# Altium schematic symbol library reg_switching_buck.SchLib: 42 symbols
Pins are listed as number, name and electrical type; pins without a type are passive.

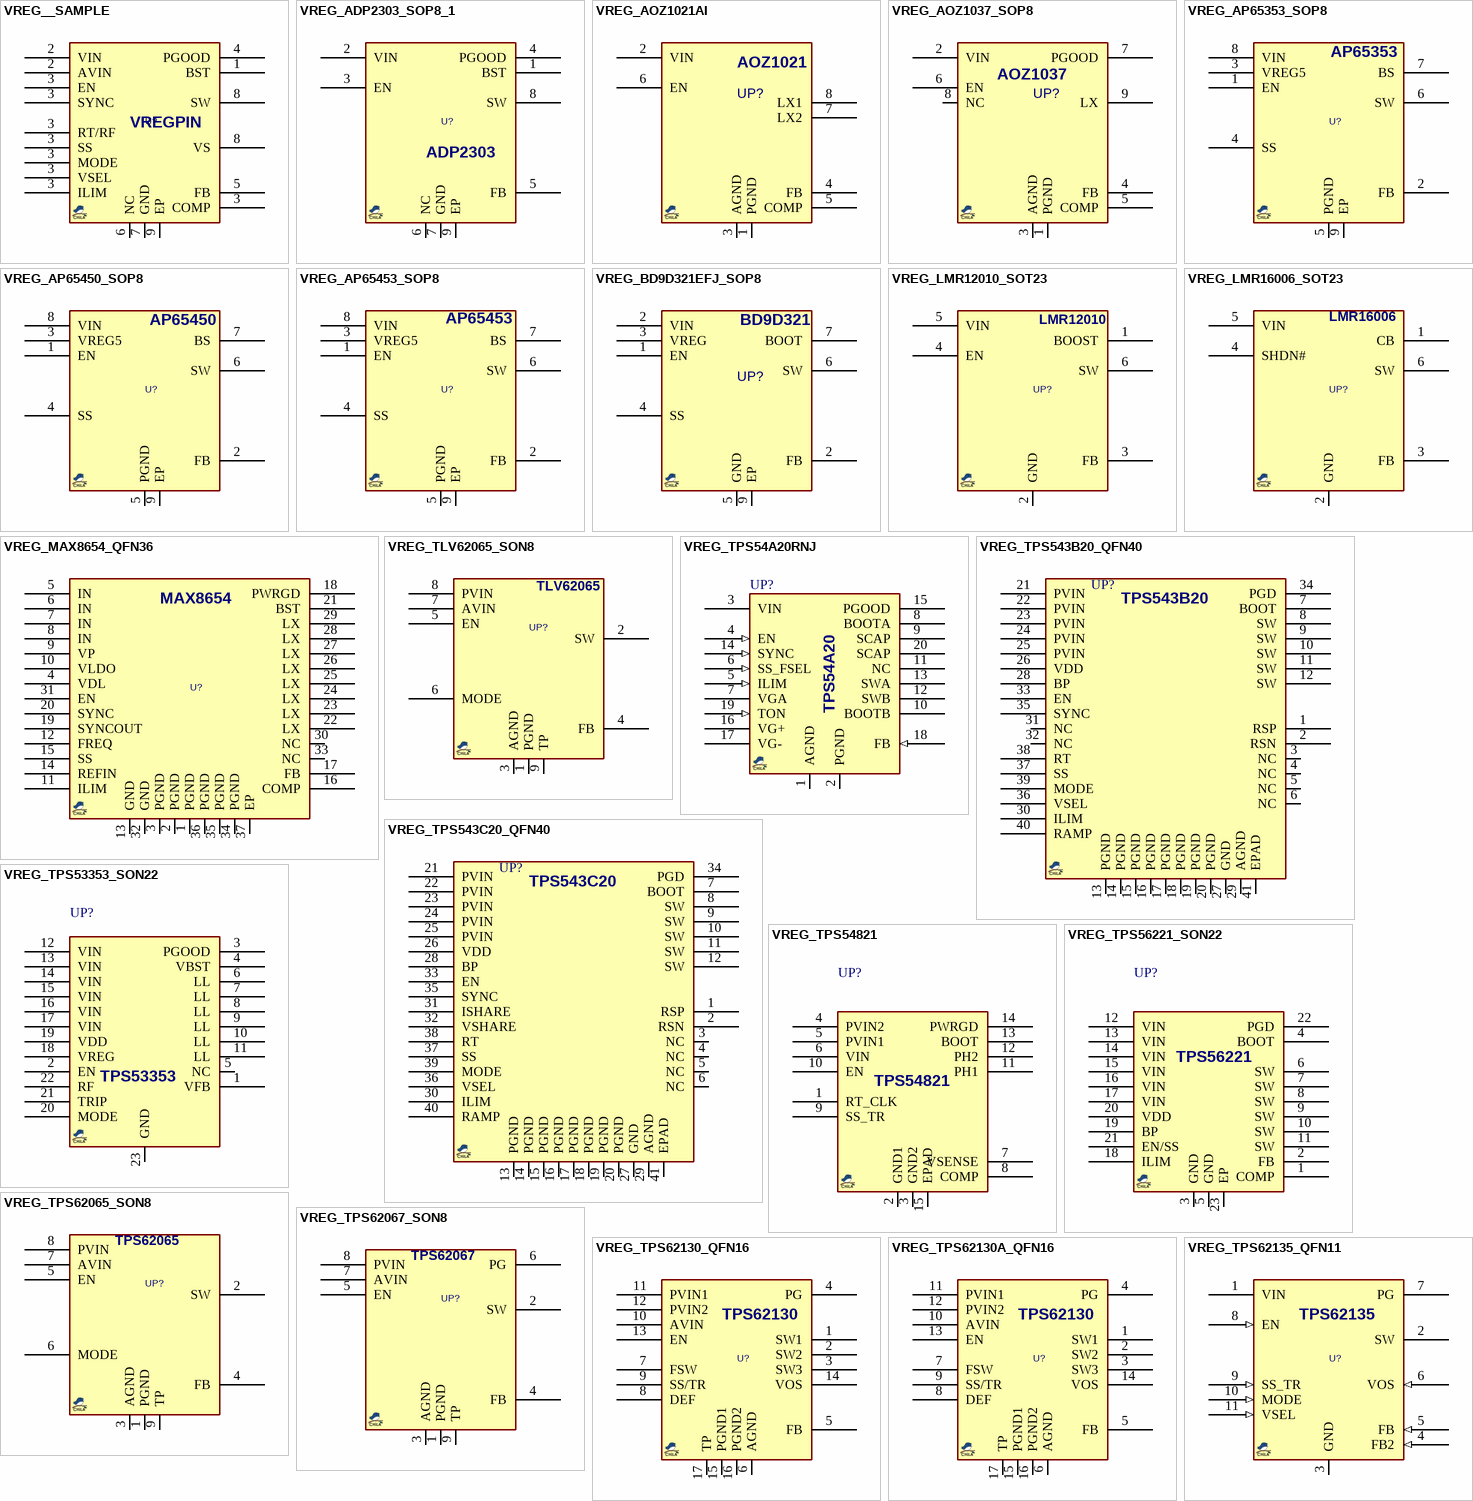
[diagram p0: symbols VREG__SAMPLE to VREG_TPS62135_QFN11]

## VREG__SAMPLE
designator U?, comment ADP2303  (value not drawn)
REG, Switching, Buck, 3A, ADJ, 0.7MHz, 3~20VIN, SOP-8; MANF: Analog Devices; MANF_P#: ADP2303ARDZ; PARAM: 3A, ADJ, -40~125oC; ASSEMBLY: ASSEMBLY; PARAM2: 0.7MHz, 3~20VIN; PRICE: 3.2$; VALUE: ADP2303
footprint SO_8T (SOP-8, 5x3.9mm body 0.5mm pitch, DDA, SO PowerPAD)
pins: 1 BST, 2 VIN, 2 AVIN, 3 EN, 3 SYNC, 3 COMP, 3 RT/RF, 3 SS, 3 MODE, 3 VSEL, 3 ILIM, 4 PGOOD, 5 FB, 6 NC, 7 GND, 8 SW, 8 VS, 9 EP
text: VREGPIN

## VREG_ADP2303_SOP8_1
designator U?, comment ADP2303  (value not drawn)
REG, Switching, Buck, 3A, ADJ, 0.7MHz, 3~20VIN, SOP-8; MANF: Analog Devices; MANF_P#: ADP2303ARDZ; PARAM: 3A, ADJ, -40~125oC; ASSEMBLY: ASSEMBLY; PARAM2: 0.7MHz, 3~20VIN; PRICE: 3.2$; VALUE: ADP2303
footprint SO_8T (SOP-8, 5x3.9mm body 0.5mm pitch, DDA, SO PowerPAD)
pins: 1 BST, 2 VIN, 3 EN, 4 PGOOD, 5 FB, 6 NC, 7 GND, 8 SW, 9 EP

## VREG_AOZ1021AI
designator UP?, comment AOZ1021AI  (value not drawn)
REG, Switching, Buck, 3A, ADJ, 500KHz, 4.5~16VIN, SO-8; MANF: AOSMD; PARAM: 3A, ADJ; ASSEMBLY: ASSEMBLY; PRICE: 1.33$, 1800t@PAYA; PARAM2: 500KHz, 4.5~16VIN; MANF_P#: AOZ1021AI; VALUE: AOZ1021AI
footprint SO_8
pins: 1 PGND (power), 2 VIN (power), 3 AGND (power), 4 FB, 5 COMP, 6 EN, 7 LX2, 8 LX1
text: AOZ1021

## VREG_AOZ1037_SOP8
designator UP?, comment AOZ1037  (value not drawn)
REG, Switching, Buck, 5A, ADJ, 0.5MHz, 4.5~18VIN, SOP8; MANF: AOSMD; PARAM: 5A, J, 0.5MHz, -40~85°C; PARAM2: 4.5~18VIN, ADJ, 55/19mΩ; MANF_P#: AOZ1037PI; ASSEMBLY: ASSEMBLY; PRICE: 1.5$; VALUE: AOZ1037
footprint SO_8T (SOP-8, 5x3.9mm body 0.5mm pitch, DDA, SO PowerPAD)
pins: 1 PGND (power), 2 VIN (power), 3 AGND (power), 4 FB (power), 5 COMP (power), 6 EN (power), 7 PGOOD (power), 8 NC (power), 9 LX (power)

## VREG_AP65353_SOP8
designator U?, comment AP65353  (value not drawn)
REG, Switching, Buck, 3A, ADJ, 0.65MHz, 4.5~18VIN, SOP-8; MANF: DIODES; MANF_P#: AP65353SP-13; PARAM: 3A, ADJ, -40~85oC; ASSEMBLY: ASSEMBLY; PARAM2: 0.65MHz, 4.5~18VIN; PRICE: 1$; VALUE: AP65353
footprint SO_8T (SOP-8, 5x3.9mm body 0.5mm pitch, DDA, SO PowerPAD)
pins: 1 EN, 2 FB, 3 VREG5, 4 SS, 5 PGND, 6 SW, 7 BS, 8 VIN, 9 EP

## VREG_AP65450_SOP8
designator U?, comment AP65450  (value not drawn)
REG, Switching, Buck, 4A, ADJ, 0.65MHz, 4.5~18VIN, SOP-8; MANF: DIODES; MANF_P#: AP65450SP-13; PARAM: 4A, ADJ, -40~85oC; ASSEMBLY: ASSEMBLY; PARAM2: 0.65MHz, 4.5~18VIN; PRICE: 0.85$; VALUE: AP65450
footprint SO_8T (SOP-8, 5x3.9mm body 0.5mm pitch, DDA, SO PowerPAD)
pins: 1 EN, 2 FB, 3 VREG5, 4 SS, 5 PGND, 6 SW, 7 BS, 8 VIN, 9 EP

## VREG_AP65453_SOP8
designator U?, comment AP65453  (value not drawn)
REG, Switching, Buck, 4A, ADJ, 0.65MHz, 4.5~18VIN, SOP-8; MANF: DIODES; MANF_P#: AP65453SP-13; PARAM: 4A, ADJ, -40~85oC; ASSEMBLY: ASSEMBLY; PARAM2: 0.65MHz, 4.5~18VIN; PRICE: 0.85$; VALUE: AP65453
footprint SO_8T (SOP-8, 5x3.9mm body 0.5mm pitch, DDA, SO PowerPAD)
pins: 1 EN, 2 FB, 3 VREG5, 4 SS, 5 PGND, 6 SW, 7 BS, 8 VIN, 9 EP

## VREG_BD9D321EFJ_SOP8
designator UP?, comment BD9D321  (value not drawn)
REG, Switching, Buck, 3A, ADJ, 700KHz, 4.5~18VIN, SO-8; MANF: ROHM; PARAM: 3A, ADJ; MANF_P#: BD9D321EFJ; ASSEMBLY: ASSEMBLY; PRICE: 0.7$; PARAM2: 700KHz, 4.5~18VIN; VALUE: BD9D321
footprint SO_8T (SOP-8, 5x3.9mm body 0.5mm pitch, DDA, SO PowerPAD)
pins: 1 EN, 2 FB, 2 VIN (power), 3 VREG, 4 SS, 5 GND (power), 6 SW, 7 BOOT, 9 EP (power)

## VREG_LMR12010_SOT23
designator UP?, comment LMR12010  (value not drawn)
REG, Switching, Buck, 1A, ADJ, 3MHz, SOT-23-6; MANF_P#: LMR12010YMK; MANF: Texas Instruments; PARAM: 1A, ADJ, 1.6/3 MHz; PARAM2: 3~20VIN; ASSEMBLY: ASSEMBLY; VALUE: LMR12010
footprint SOT23_6 (SOT-23-6, MICRO6, SOT-26, SOT457, SuperSOT6, TSOP-6, HMC313, MO-178AB, MO-193AA, TSOT)
pins: 1 BOOST, 2 GND, 3 FB, 4 EN, 5 VIN, 6 SW

## VREG_LMR16006_SOT23
designator UP?, comment LMR16006  (value not drawn)
REG, Switching, Buck, 0.6A, ADJ, 2.1MHz, SOT-23-6; MANF_P#: LMR16006YQDDCTQ1; MANF: Texas Instruments; PARAM2: 4~40VIN; ASSEMBLY: ASSEMBLY; PARAM: 0.6A, ADJ, 2.1 MHz; PRICE: 3.7$; VALUE: LMR16006
footprint SOT23_6 (SOT-23-6, MICRO6, SOT-26, SOT457, SuperSOT6, TSOP-6, HMC313, MO-178AB, MO-193AA, TSOT)
pins: 1 CB, 2 GND, 3 FB, 4 SHDN#, 5 VIN, 6 SW

## VREG_MAX8654_QFN36
designator U?, comment MAX8654  (value not drawn)
REG, Switching, Buck, 8A, ADJ, 1.2MHz, QFN-36; MANF_P#: MAX8654ETX+; MANF: MAXIM; PARAM: 8A, ADJ; PARAM2: 1.2MHz, 4.5~14VIN; ASSEMBLY: ASSEMBLY; VALUE: MAX8654
footprint QFN50_36T (MO-220-VJJD (JEDEC), 36 TQFN T3666+3 (MAXIM), 6X6mm, 0.5mm)
pins: 1 PGND, 2 PGND, 3 PGND, 4 VDL, 5 IN, 6 IN, 7 IN, 8 IN, 9 VP, 10 VLDO, 11 ILIM, 12 FREQ, 13 GND, 14 REFIN, 15 SS, 16 COMP, 17 FB, 18 PWRGD, 19 SYNCOUT, 20 SYNC, 21 BST, 22 LX, 23 LX, 24 LX, 25 LX, 26 LX, 27 LX, 28 LX, 29 LX, 30 NC, 31 EN, 32 GND, 33 NC, 34 PGND, 35 PGND, 36 PGND, 37 EP

## VREG_TLV62065_SON8
designator UP?, comment TLV62065  (value not drawn)
REG, Switching, Buck, 2A, ADJ, 3MHz, 2.9~5.5VIN, SON-8; MANF_P#: TLV62065DSG; MANF: Texas Instruments; PARAM: 2A, ADJ, -40~85oC; PARAM2: 3MHz, 2.9~5.5VIN, 97% Eff; ASSEMBLY: ASSEMBLY; PRICE: 1.5$; VALUE: TLV62065
footprint SON50_8T_2020 (DSG PWSON (TI), Pitch: 0.5mm 2x2x0.8mm with Thermal pad)
pins: 1 PGND, 2 SW, 3 AGND, 4 FB, 5 EN, 6 MODE, 7 AVIN, 8 PVIN, 9 TP

## VREG_TPS54A20RNJ
designator UP?, comment TPS54A20  (value not drawn)
REG, Switching, Buck, 8~14V, 2 phase 10A, RNJ20; MANF: Texas Instruments; PARAM: 10A, 10MHz; PARAM2: 8~14VIN, 0.5~2Vout; DIST#: MOUSER/595-TPS54A20RNJR; MANF_P#: TPS54A20RNJR; PRICE: 6.8$; ASSEMBLY: ASSEMBLY; VALUE: TPS54A20
footprint QFN50_20_RNJ (VQFN RNJ, 20-Leads, Body 3.5x4mm, Pitch 0.50mm)
pins: 1 AGND (power), 2 PGND (power), 3 VIN (power), 4 EN (in), 5 ILIM (in), 6 SS_FSEL (in), 7 VGA (power), 8 BOOTA (power), 9 SCAP, 10 BOOTB (power), 11 NC, 12 SWB (power), 13 SWA (power), 14 SYNC (in), 15 PGOOD (oc), 16 VG+ (power), 17 VG- (power), 18 FB (in), 19 TON (in), 20 SCAP

## VREG_TPS543B20_QFN40
designator UP?, comment TPS543B20  (value not drawn)
REG, Switching, Buck, 4~19V, 25A, 0.3~2MHz; MANF: Texas Instruments; PARAM2: 4~19VIN, 0.6~5.5Vout; MANF_P#: TPS543B20RVF; PRICE: 10$; PARAM: 25A, 0.3~2MHz; ASSEMBLY: ASSEMBLY; VALUE: TPS543B20
footprint QFN50_40T_7050 (RVF0040, LGFN-CLIP, 7.0X5.0X1.5mm, 0.5mm pitch)
pins: 1 RSP, 2 RSN, 3 NC, 4 NC, 5 NC, 6 NC, 7 BOOT, 8 SW, 9 SW, 10 SW, 11 SW, 12 SW, 13 PGND, 14 PGND, 15 PGND, 16 PGND, 17 PGND, 18 PGND, 19 PGND, 20 PGND, 21 PVIN, 22 PVIN, 23 PVIN, 24 PVIN, 25 PVIN, 26 VDD, 27 GND, 28 BP, 29 AGND, 30 ILIM, 31 NC, 32 NC, 33 EN, 34 PGD, 35 SYNC, 36 VSEL, 37 SS, 38 RT, 39 MODE, 40 RAMP, 41 EPAD

## VREG_TPS543C20_QFN40
designator UP?, comment TPS543C20  (value not drawn)
REG, Switching, Buck, 4~16V, 40A, 0.3~2MHz; MANF: Texas Instruments; DESC: Stack2XUpTo80A WithCurrentShare; PARAM2: 4~16VIN, 0.6~5.5Vout; MANF_P#: TPS543B20RVF; PRICE: 11$; PARAM: 40A, 0.3~2MHz; ASSEMBLY: ASSEMBLY; VALUE: TPS543C20
footprint QFN50_40T_7050 (RVF0040, LGFN-CLIP, 7.0X5.0X1.5mm, 0.5mm pitch)
pins: 1 RSP, 2 RSN, 3 NC, 4 NC, 5 NC, 6 NC, 7 BOOT, 8 SW, 9 SW, 10 SW, 11 SW, 12 SW, 13 PGND, 14 PGND, 15 PGND, 16 PGND, 17 PGND, 18 PGND, 19 PGND, 20 PGND, 21 PVIN, 22 PVIN, 23 PVIN, 24 PVIN, 25 PVIN, 26 VDD, 27 GND, 28 BP, 29 AGND, 30 ILIM, 31 ISHARE, 32 VSHARE, 33 EN, 34 PGD, 35 SYNC, 36 VSEL, 37 SS, 38 RT, 39 MODE, 40 RAMP, 41 EPAD

## VREG_TPS53353_SON22
designator UP?, comment TPS53353  (value not drawn)
REG, Switching, Buck, 1.5~15V, 20A, 0.25~1MHz; MANF: Texas Instruments; PARAM: 25A, 0.25~1MHz; PARAM2: 1.5~15VIN, 4.5~25VDD, 0.6~5.5Vout; MANF_P#: TPS53353DQP; PRICE: 7$; ASSEMBLY: ASSEMBLY; VALUE: TPS53353
footprint SON50_22T_5060 (DQP, SON-22, 5X6X1.5mm, 0.5mm pitch)
pins: 1 VFB, 2 EN, 3 PGOOD, 4 VBST, 5 NC, 6 LL, 7 LL, 8 LL, 9 LL, 10 LL, 11 LL, 12 VIN, 13 VIN, 14 VIN, 15 VIN, 16 VIN, 17 VIN, 18 VREG, 19 VDD, 20 MODE, 21 TRIP, 22 RF, 23 GND

## VREG_TPS54821
designator UP?, comment TPS54821  (value not drawn)
REG, Switching, Buck, 4.5~18V, 8A, S-PVQFN-N14; MANF: Texas Instruments; PARAM: 8A,; PARAM2: 4.5~18VIN; DIST#: MOUSER/595-TPS54821RHLR; MANF_P#: TPS54821RHLR; DESC: REG, Switching, Buck, 4.5~18V, 8A, S-PVQFN-N14; PRICE: 1= 3.8$; ASSEMBLY: ASSEMBLY; VALUE: TPS54821
footprint QFN50_14T (S-PVQFN-N14, 3.5X3.5mm, pitch: 0.5mm, 6+2+6+2)
pins: 1 RT_CLK, 2 GND1, 3 GND2, 4 PVIN2, 5 PVIN1, 6 VIN, 7 VSENSE, 8 COMP, 9 SS_TR, 10 EN, 11 PH1, 12 PH2, 13 BOOT, 14 PWRGD, 15 EPAD

## VREG_TPS56221_SON22
designator UP?, comment TPS56221  (value not drawn)
REG, Switching, Buck, 4.5~14V, 25A, 0.25~1MHz; MANF: Texas Instruments; PARAM: 25A, 0.3~1MHz; PARAM2: 4.5~14V,  0.6~12Vout; MANF_P#: TPS56221DQP; PRICE: 8$; ASSEMBLY: ASSEMBLY; VALUE: TPS56221
footprint SON50_22T_5060 (DQP, SON-22, 5X6X1.5mm, 0.5mm pitch)
pins: 1 COMP, 2 FB, 3 GND, 4 BOOT, 5 GND, 6 SW, 7 SW, 8 SW, 9 SW, 10 SW, 11 SW, 12 VIN, 13 VIN, 14 VIN, 15 VIN, 16 VIN, 17 VIN, 18 ILIM, 19 BP, 20 VDD , 21 EN/SS, 22 PGD, 23 EP

## VREG_TPS62065_SON8
designator UP?, comment TPS62065  (value not drawn)
REG, Switching, Buck, 2A, ADJ, 3MHz, 2.9~6VIN, SON-8; MANF_P#: TPS62065DSG; MANF: Texas Instruments; PARAM: 2A, ADJ, -40~85oC; PARAM2: 3MHz, 2.9~6VIN, 97% Eff; ASSEMBLY: ASSEMBLY; PRICE: 2.3$; VALUE: TPS62065
footprint SON50_8T_2020 (DSG PWSON (TI), Pitch: 0.5mm 2x2x0.8mm with Thermal pad)
pins: 1 PGND, 2 SW, 3 AGND, 4 FB, 5 EN, 6 MODE, 7 AVIN, 8 PVIN, 9 TP

## VREG_TPS62067_SON8
designator UP?, comment TPS62067  (value not drawn)
REG, Switching, Buck, 2A, ADJ, 3MHz, 2.9~6VIN, SON-8; MANF_P#: TPS62067DSG; MANF: Texas Instruments; PARAM: 2A, ADJ, -40~85oC; PARAM2: 3MHz, 2.9~6VIN, 97% Eff; ASSEMBLY: ASSEMBLY; PRICE: 2.3$; VALUE: TPS62067
footprint SON50_8T_2020 (DSG PWSON (TI), Pitch: 0.5mm 2x2x0.8mm with Thermal pad)
pins: 1 PGND, 2 SW, 3 AGND, 4 FB, 5 EN, 6 PG, 7 AVIN, 8 PVIN, 9 TP

## VREG_TPS62130_QFN16
designator U?, comment TPS62130  (value not drawn)
REG, Switching, Buck, 3A, ADJ, 2.5MHz, 3~17VIN, QFN-16; MANF: Texas Instruments; MANF_P#: TPS62130RGT; PARAM: 3A, ADJ; PARAM2: 2.5MHz, 3~17VIN, PGOOD HiZ; ASSEMBLY: ASSEMBLY; VALUE: TPS62130
footprint QFN50_16T_3X3 (RGT PVQFN (TI), 16-lead, pitch: 0.5mm, 3x3mm)
pins: 1 SW1, 2 SW2, 3 SW3, 4 PG, 5 FB, 6 AGND, 7 FSW, 8 DEF, 9 SS/TR, 10 AVIN, 11 PVIN1, 12 PVIN2, 13 EN, 14 VOS, 15 PGND1, 16 PGND2, 17 TP

## VREG_TPS62130A_QFN16
designator U?, comment TPS62130  (value not drawn)
REG, Switching, Buck, 3A, ADJ, 2.5MHz, 3~17VIN, QFN-16; MANF: Texas Instruments; MANF_P#: TPS62130ARGT; PARAM: 3A, ADJ; PARAM2: 2.5MHz, 3~17VIN, PGOOD Low; ASSEMBLY: ASSEMBLY; VALUE: TPS62130
footprint QFN50_16T_3X3 (RGT PVQFN (TI), 16-lead, pitch: 0.5mm, 3x3mm)
pins: 1 SW1, 2 SW2, 3 SW3, 4 PG, 5 FB, 6 AGND, 7 FSW, 8 DEF, 9 SS/TR, 10 AVIN, 11 PVIN1, 12 PVIN2, 13 EN, 14 VOS, 15 PGND1, 16 PGND2, 17 TP

## VREG_TPS62135_QFN11
designator U?, comment TPS62135  (value not drawn)
REG, Switching, Buck, 4A, ADJ, 2.5MHz, 3~17VIN, QFN-11; MANF: Texas Instruments; MANF_P#: TPS62135RGX, TPS621351RGX; PARAM: 4A, ADJ, -40~125oC; ASSEMBLY: ASSEMBLY; PARAM2: 2.5MHz, 3~17VIN; PRICE: 2.3$; VALUE: TPS62135
footprint QFN50_11_2030_RGX (QFN-11 RGX, pitch: 0.5mm, 2x3x1mm)
pins: 1 VIN (power), 2 SW (power), 3 GND (power), 4 FB2 (in), 5 FB (in), 6 VOS (in), 7 PG (oc), 8 EN (in), 9 SS_TR (in), 10 MODE (in), 11 VSEL (in)

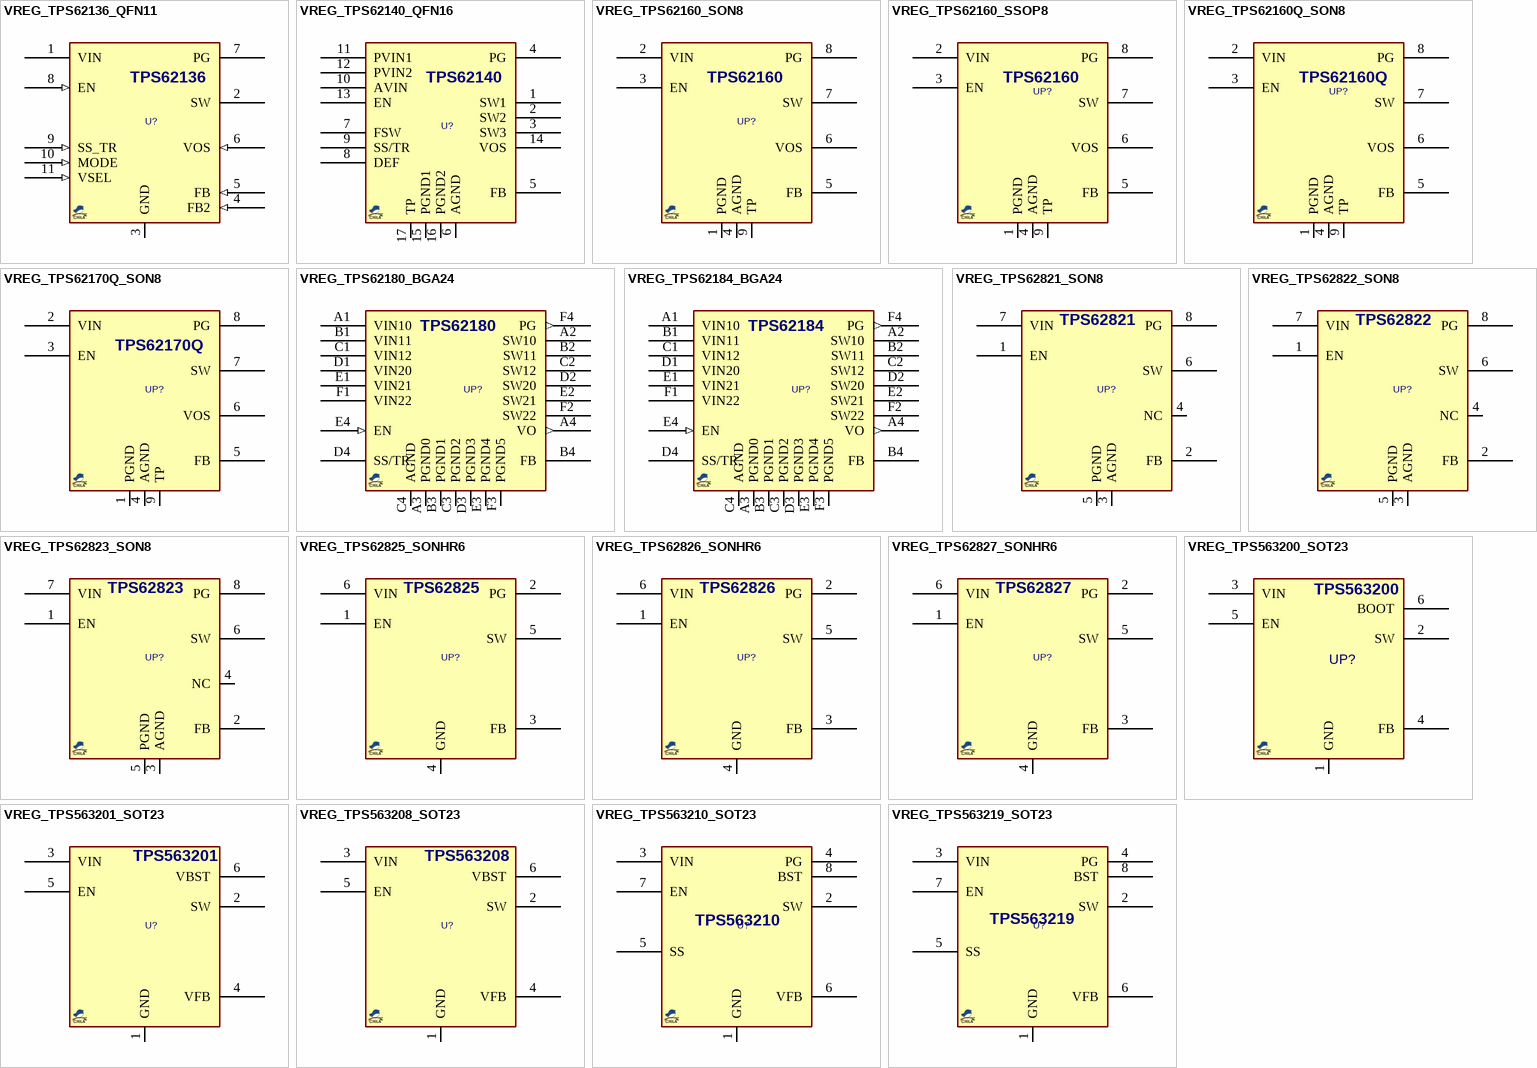
[diagram p1: symbols VREG_TPS62136_QFN11 to VREG_TPS563219_SOT23]

## VREG_TPS62136_QFN11
designator U?, comment TPS62136  (value not drawn)
REG, Switching, Buck, 4A, ADJ, 1MHz, 3~17VIN, QFN-11; MANF: Texas Instruments; MANF_P#: TPS62136RGX, TPS621361RGX; PARAM: 4A, ADJ, -40~125oC; ASSEMBLY: ASSEMBLY; PARAM2: 1MHz, 3~17VIN; PRICE: 2.3$; VALUE: TPS62136
footprint QFN50_11_2030_RGX (QFN-11 RGX, pitch: 0.5mm, 2x3x1mm)
pins: 1 VIN (power), 2 SW (power), 3 GND (power), 4 FB2 (in), 5 FB (in), 6 VOS (in), 7 PG (oc), 8 EN (in), 9 SS_TR (in), 10 MODE (in), 11 VSEL (in)

## VREG_TPS62140_QFN16
designator U?, comment TPS62140  (value not drawn)
REG, Switching, Buck, 2A, ADJ, 2.5MHz, 3~17VIN, QFN-16; MANF: Texas Instruments; MANF_P#: TPS62140ARGT; PARAM: 2A, ADJ; ASSEMBLY: ASSEMBLY; PARAM2: 2.5MHz, 3~17VIN; VALUE: TPS62140
footprint QFN50_16T_3X3 (RGT PVQFN (TI), 16-lead, pitch: 0.5mm, 3x3mm)
pins: 1 SW1, 2 SW2, 3 SW3, 4 PG, 5 FB, 6 AGND, 7 FSW, 8 DEF, 9 SS/TR, 10 AVIN, 11 PVIN1, 12 PVIN2, 13 EN, 14 VOS, 15 PGND1, 16 PGND2, 17 TP

## VREG_TPS62160_SON8
designator UP?, comment TPS62160  (value not drawn)
REG, Switching, Buck, 1A, ADJ, 2.25MHz, 3~17VIN, SON-8; MANF_P#: TPS62160QDSG; MANF: Texas Instruments; PARAM: 1A, ADJ, -40~85oC; ASSEMBLY: ASSEMBLY; PARAM2: 2.25MHz, 3~17VIN; VALUE: TPS62160
footprint SON50_8T_2020 (DSG PWSON (TI), Pitch: 0.5mm 2x2x0.8mm with Thermal pad)
pins: 1 PGND, 2 VIN, 3 EN, 4 AGND, 5 FB, 6 VOS, 7 SW, 8 PG, 9 TP

## VREG_TPS62160_SSOP8
designator UP?, comment 2.3$@DIGIKEY  (value not drawn)
REG, Switching, Buck, 1A, ADJ, 2.25MHz, 3~17VIN, SSOP-8; MANF_P#: TPS62160DGK; MANF: Texas Instruments; PARAM: 1A, ADJ; VALUE: TPS62160; ASSEMBLY: ASSEMBLY; PARAM2: 2.25MHz, 3~17VIN; VALUE: 2.3$@DIGIKEY
footprint SOG65_8_3 (pitch: 0.65mm, 3.0mmX3.0mm, SSOP DCT SM8 (TI), TSSOP8, MICRO8, DGK, MSOP8, RM-8, MS8, MSOP-8, usop8/8uSOP)
pins: 1 PGND, 2 VIN, 3 EN, 4 AGND, 5 FB, 6 VOS, 7 SW, 8 PG, 9 TP

## VREG_TPS62160Q_SON8
designator UP?, comment TPS62160Q  (value not drawn)
REG, Switching, Buck, 1A, ADJ, 2.25MHz, 3~17VIN, SON-8; MANF_P#: TPS62160QDSG; MANF: Texas Instruments; PARAM: 1A, ADJ, -40~125oC; ASSEMBLY: ASSEMBLY; PARAM2: 2.25MHz, 3~17VIN; VALUE: TPS62160Q
footprint SON50_8T_2020 (DSG PWSON (TI), Pitch: 0.5mm 2x2x0.8mm with Thermal pad)
pins: 1 PGND, 2 VIN, 3 EN, 4 AGND, 5 FB, 6 VOS, 7 SW, 8 PG, 9 TP

## VREG_TPS62170Q_SON8
designator UP?, comment TPS62170Q  (value not drawn)
REG, Switching, Buck, 0.5A, ADJ, 2.25MHz, 3~17VIN, SON-8; MANF_P#: TPS62170QDSG; MANF: Texas Instruments; PARAM: 0.5A, ADJ, -40~125oC; ASSEMBLY: ASSEMBLY; PARAM2: 2.25MHz, 3~17VIN; VALUE: TPS62170Q
footprint SON50_8T_2020 (DSG PWSON (TI), Pitch: 0.5mm 2x2x0.8mm with Thermal pad)
pins: 1 PGND, 2 VIN, 3 EN, 4 AGND, 5 FB, 6 VOS, 7 SW, 8 PG, 9 TP

## VREG_TPS62180_BGA24
designator UP?, comment TPS62180  (value not drawn)
REG, Switching, Buck, 6A, ADJ, 2MHz, 4~15VIN, DSBGA24; MANF: Texas Instruments; MANF_P#: TPS62180YZF; PARAM2: 4~15VIN, ADJ, 27/21mΩ; PARAM: 6A 2PHASE, 2MHz, -40~125°C; ASSEMBLY: ASSEMBLY; PRICE: 2.5$; VALUE: TPS62180
footprint BGA50_24_210X310 (DSBGA 24-BALL 2.1X3.1mm pitch:0.5mm)
pins: A1 VIN10, A2 SW10, A3 PGND0, A4 VO (out), B1 VIN11, B2 SW11, B3 PGND1, B4 FB, C1 VIN12, C2 SW12, C3 PGND2, C4 AGND, D1 VIN20, D2 SW20, D3 PGND3, D4 SS/TR, E1 VIN21, E2 SW21, E3 PGND4, E4 EN (in), F1 VIN22, F2 SW22, F3 PGND5, F4 PG (out)

## VREG_TPS62184_BGA24
designator UP?, comment TPS62184  (value not drawn)
REG, Switching, Buck, 6A, ADJ, 2MHz, 4~17VIN, DSBGA24; MANF: Texas Instruments; MANF_P#: TPS62184YZF; PARAM2: 4~15VIN, ADJ, 27/21mΩ; PARAM: 6A 2PHASE, 2MHz, -40~125°C; ASSEMBLY: ASSEMBLY; PRICE: 2.5$; VALUE: TPS62184
footprint BGA50_24_210X310 (DSBGA 24-BALL 2.1X3.1mm pitch:0.5mm)
pins: A1 VIN10, A2 SW10, A3 PGND0, A4 VO (out), B1 VIN11, B2 SW11, B3 PGND1, B4 FB, C1 VIN12, C2 SW12, C3 PGND2, C4 AGND, D1 VIN20, D2 SW20, D3 PGND3, D4 SS/TR, E1 VIN21, E2 SW21, E3 PGND4, E4 EN (in), F1 VIN22, F2 SW22, F3 PGND5, F4 PG (out)

## VREG_TPS62821_SON8
designator UP?, comment TPS62821  (value not drawn)
REG, Switching, Buck, 1A, ADJ, 2.2MHz, 2.4~5.5VIN, SON-8; MANF_P#: TPS62821DLC; MANF: Texas Instruments; PARAM: 1A, ADJ, -40~85oC; ASSEMBLY: ASSEMBLY; PARAM2: 2.2MHz, 2.4~5.5VIN; PRICE: 1$; VALUE: TPS62821
footprint SON50_8_2015 (Footprint not found)
pins: 1 EN, 2 FB, 3 AGND, 4 NC, 5 PGND, 6 SW (power), 7 VIN (power), 8 PG

## VREG_TPS62822_SON8
designator UP?, comment TPS62822  (value not drawn)
REG, Switching, Buck, 2A, ADJ, 2.2MHz, 2.4~5.5VIN, SON-8; MANF_P#: TPS62822DLC; MANF: Texas Instruments; PARAM: 2A, ADJ, -40~85oC; ASSEMBLY: ASSEMBLY; PARAM2: 2.2MHz, 2.4~5.5VIN; PRICE: 1$; VALUE: TPS62822
footprint SON50_8_2015 (QFN-8 DLC, 2X1.5X1mm, pitch: 0.5mm)
pins: 1 EN, 2 FB, 3 AGND, 4 NC, 5 PGND, 6 SW (power), 7 VIN (power), 8 PG

## VREG_TPS62823_SON8
designator UP?, comment TPS62823  (value not drawn)
REG, Switching, Buck, 3A, ADJ, 2.2MHz, 2.4~5.5VIN, SON-8; MANF_P#: TPS62823DLC; MANF: Texas Instruments; PARAM: 3A, ADJ, -40~85oC; ASSEMBLY: ASSEMBLY; PARAM2: 2.2MHz, 2.4~5.5VIN; PRICE: 1$; VALUE: TPS62823
footprint SON50_8_2015 (QFN-8 DLC, 2X1.5X1mm, pitch: 0.5mm)
pins: 1 EN, 2 FB, 3 AGND, 4 NC, 5 PGND, 6 SW (power), 7 VIN (power), 8 PG

## VREG_TPS62825_SONHR6
designator UP?, comment TPS62825  (value not drawn)
REG, Switching, Buck, 2A, ADJ, 2.2MHz, 2.4~5.5VIN, SONHR6; MANF_P#: TPS62825DMQ; MANF: Texas Instruments; PARAM: 2A, ADJ, -40~85oC; ASSEMBLY: ASSEMBLY; PARAM2: 2.2MHz, 2.4~5.5VIN; PRICE: 1.5$; VALUE: TPS62825
footprint SONHR50_6 (VSON-HR, 6, DMQ, 0.5mm pitch, 1.5x1.5mm)
pins: 1 EN, 2 PG, 3 FB, 4 GND, 5 SW, 6 VIN

## VREG_TPS62826_SONHR6
designator UP?, comment TPS62826  (value not drawn)
REG, Switching, Buck, 3A, ADJ, 2.2MHz, 2.4~5.5VIN, SONHR6; MANF_P#: TPS62826DMQ; MANF: Texas Instruments; PARAM: 3A, ADJ, -40~85oC; ASSEMBLY: ASSEMBLY; PARAM2: 2.2MHz, 2.4~5.5VIN; PRICE: 1.7$; VALUE: TPS62826
footprint SONHR50_6 (VSON-HR, 6, DMQ, 0.5mm pitch, 1.5x1.5mm)
pins: 1 EN, 2 PG, 3 FB, 4 GND, 5 SW, 6 VIN

## VREG_TPS62827_SONHR6
designator UP?, comment TPS62827  (value not drawn)
REG, Switching, Buck, 4A, ADJ, 2.2MHz, 2.4~5.5VIN, SONHR6; MANF_P#: TPS62827DMQ; MANF: Texas Instruments; PARAM: 4A, ADJ, -40~85oC; ASSEMBLY: ASSEMBLY; PARAM2: 2.2MHz, 2.4~5.5VIN; PRICE: 1.9$, 1.2$ 100pcs; VALUE: TPS62827
footprint SONHR50_6 (VSON-HR, 6, DMQ, 0.5mm pitch, 1.5x1.5mm)
pins: 1 EN, 2 PG, 3 FB, 4 GND, 5 SW, 6 VIN

## VREG_TPS563200_SOT23
designator UP?, comment TPS563200  (value not drawn)
REG, Switching, Buck, 3A, ADJ, 650KHz, 4.5~17VIN, SOT23-6; MANF: TI; PARAM: 3A, ADJ; MANF_P#: TPS563200DDC; ASSEMBLY: ASSEMBLY; PRICE: 1.3$; DESC: -; PARAM2: 650KHz, 4.5~17VIN; VALUE: TPS563200
footprint SOT23_6 (SOT-23-6, MICRO6, SOT-26, SOT457, SuperSOT6, TSOP-6, HMC313, MO-178AB, MO-193AA, TSOT)
pins: 1 GND (power), 2 SW, 3 VIN (power), 4 FB, 5 EN, 6 BOOT

## VREG_TPS563201_SOT23
designator U?, comment TPS563201  (value not drawn)
REG, Switching, Buck, 3A, ADJ, 0.58MHz, 4.5~17VIN, SOT-23-6; MANF: Texas Instruments; MANF_P#: TPS563201DDC; PARAM: 3A, ADJ, -40~125oC; DESC: Pulse-skip mode; ASSEMBLY: ASSEMBLY; PARAM2: 0.58MHz, 4.5~17VIN; PRICE: 1.5$; VALUE: TPS563201
footprint SOT23_6 (SOT-23-6, MICRO6, SOT-26, SOT457, SuperSOT6, TSOP-6, HMC313, MO-178AB, MO-193AA, TSOT)
pins: 1 GND, 2 SW, 3 VIN, 4 VFB, 5 EN, 6 VBST

## VREG_TPS563208_SOT23
designator U?, comment TPS563208  (value not drawn)
REG, Switching, Buck, 3A, ADJ, 0.58MHz, 4.5~17VIN, SOT-23-6; MANF: Texas Instruments; MANF_P#: TPS563208DDC; PARAM: 3A, ADJ, -40~125oC; DESC: ContinuousCurrent mode; ASSEMBLY: ASSEMBLY; PARAM2: 0.58MHz, 4.5~17VIN; PRICE: 1.3$; VALUE: TPS563208
footprint SOT23_6 (SOT-23-6, MICRO6, SOT-26, SOT457, SuperSOT6, TSOP-6, HMC313, MO-178AB, MO-193AA, TSOT)
pins: 1 GND, 2 SW, 3 VIN, 4 VFB, 5 EN, 6 VBST

## VREG_TPS563210_SOT23
designator U?, comment TPS563210  (value not drawn)
REG, Switching, Buck, 3A, ADJ, 0.65MHz, 4.5~17VIN, SOT-23-8; MANF: Texas Instruments; MANF_P#: TPS563210ADDF; PARAM: 3A, ADJ, -40~85oC; DESC: Eco-mode Pulse-skip/ D-CAP2 Mode; ASSEMBLY: ASSEMBLY; PARAM2: 0.65MHz, 4.5~17VIN; PRICE: 1.6$; VALUE: TPS563210
footprint SOT23_8 (SOT23, 8-Leads, Body 2.90x2.80mm, Pitch 0.65mm, DSO65_8_300X150)
pins: 1 GND, 2 SW, 3 VIN, 4 PG, 5 SS, 6 VFB, 7 EN, 8 BST

## VREG_TPS563219_SOT23
designator U?, comment TPS563219  (value not drawn)
REG, Switching, Buck, 3A, ADJ, 0.65MHz, 4.5~17VIN, SOT-23-8; MANF: Texas Instruments; MANF_P#: TPS563219ADDF; PARAM: 3A, ADJ, -40~85oC; DESC: D-CAP2 Mode; ASSEMBLY: ASSEMBLY; PARAM2: 0.65MHz, 4.5~17VIN; PRICE: 1.6$; VALUE: TPS563219
footprint SOT23_8 (SOT23, 8-Leads, Body 2.90x2.80mm, Pitch 0.65mm, DSO65_8_300X150)
pins: 1 GND, 2 SW, 3 VIN, 4 PG, 5 SS, 6 VFB, 7 EN, 8 BST